# EAGLE library part SI7021 (library wifi_WX)
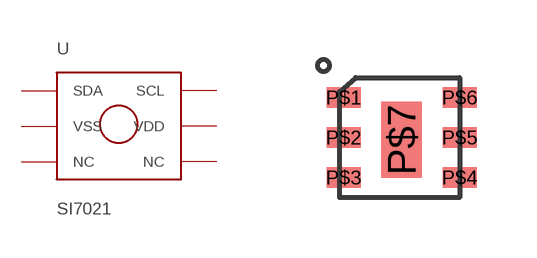
[diagram p10: symbol with the pads of DFN-6_SILABS; footprint DFN-6_SILABS]

Designator prefix -

## SI7021-DFN6  [DFN-6_SILABS]
P$1  SDA
P$2  VSS  pwr
P$3  NC  nc
P$4  NC  nc
P$5  VDD  pwr
P$6  SCL

## Footprint DFN-6_SILABS (pad centres in mm)
smd 0.85 x 0.508: P$1 0,2; P$2 0,1; P$3 0,0; P$4 2.9,0; P$5 2.9,1; P$6 2.9,2
smd 1.016 x 1.905: P$7 1.45,0.95